# EAGLE library part ATTINY85-20MUR (library Color-Experimentation)
AVR series Microcontroller IC 8-Bit 20MHz 8KB (4K x 16) FLASH 20-QFN-EP (4x4)
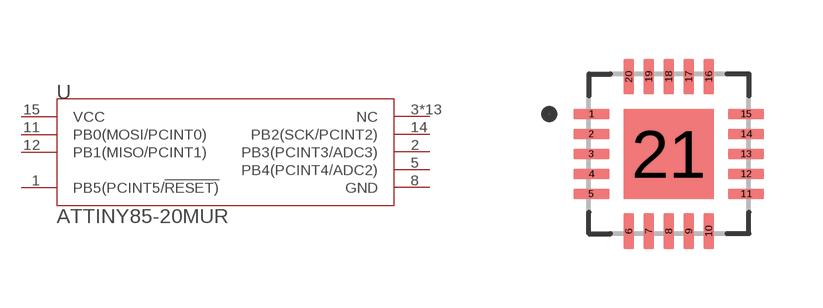
[diagram p0: symbol with the pads of QFN-20-THERMAL; footprint QFN-20-THERMAL]

Designator prefix U

## ATTINY85-20MUR (MFG: Microchip; MPN: ATTINY85-20MUR)  [QFN-20-THERMAL]
1  PB5(PCINT5/!RESET)  pas
2  PB3(PCINT3/ADC3)  pas
3  NC  pas
4  NC  pas
5  PB4(PCINT4/ADC2)  pas
6  NC  pas
7  NC  pas
8  GND  pas
9  NC  pas
10  NC  pas
11  PB0(MOSI/PCINT0)  pas
12  PB1(MISO/PCINT1)  pas
13  NC  pas
14  PB2(SCK/PCINT2)  pas
15  VCC  pas
16  NC  pas
17  NC  pas
18  NC  pas
19  NC  pas
20  NC  pas
21  NC  pas

## Footprint QFN-20-THERMAL (pad centres in mm)
smd 0.9 x 0.26: 1 -1.935,1; 2 -1.935,0.5; 3 -1.935,0; 4 -1.935,-0.5; 5 -1.935,-1; 11 1.935,-1; 12 1.935,-0.5; 13 1.935,0; 14 1.935,0.5; 15 1.935,1
smd 0.26 x 0.9: 6 -1,-1.935; 7 -0.5,-1.935; 8 0,-1.935; 9 0.5,-1.935; 10 1,-1.935; 16 1,1.935; 17 0.5,1.935; 18 0,1.935; 19 -0.5,1.935; 20 -1,1.935
smd 2.25 x 2.25: 21 0,0